# Altium schematic symbol library texas_instruments.SchLib: 28 symbols
Pins are listed as number, name and electrical type; pins without a type are passive.

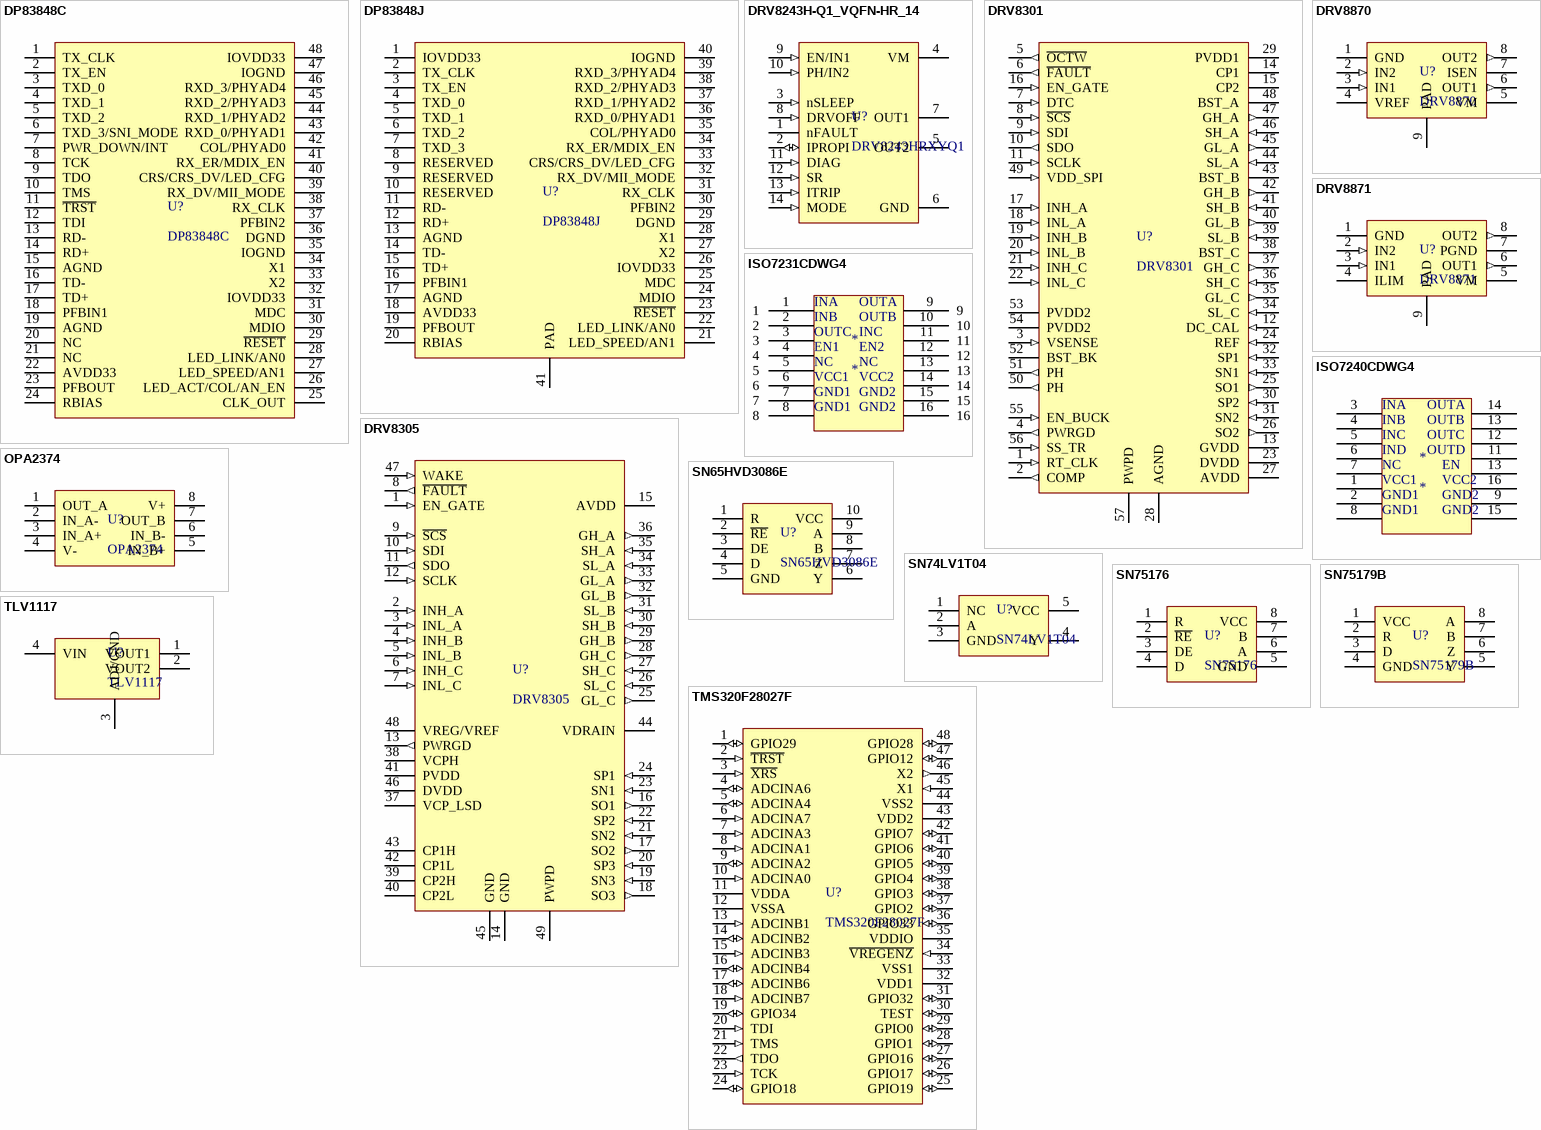
[diagram p0: symbols DP83848C to TMS320F28027F]

## DP83848C
designator U?
footprint PQFP48
pins: 1 TX_CLK, 2 TX_EN, 3 TXD_0, 4 TXD_1, 5 TXD_2, 6 TXD_3/SNI_MODE, 7 PWR_DOWN/INT, 8 TCK, 9 TDO, 10 TMS, 11 ~{TRST}, 12 TDI, 13 RD-, 14 RD+, 15 AGND, 16 TD-, 17 TD+, 18 PFBIN1, 19 AGND, 20 NC, 21 NC, 22 AVDD33, 23 PFBOUT, 24 RBIAS, 25 CLK_OUT, 26 LED_ACT/COL/AN_EN, 27 LED_SPEED/AN1, 28 LED_LINK/AN0, 29 ~{RESET}, 30 MDIO, 31 MDC, 32 IOVDD33, 33 X2, 34 X1, 35 IOGND, 36 DGND, 37 PFBIN2, 38 RX_CLK, 39 RX_DV/MII_MODE, 40 CRS/CRS_DV/LED_CFG, 41 RX_ER/MDIX_EN, 42 COL/PHYAD0, 43 RXD_0/PHYAD1, 44 RXD_1/PHYAD2, 45 RXD_2/PHYAD3, 46 RXD_3/PHYAD4, 47 IOGND, 48 IOVDD33

## DP83848J
designator U?
footprint WQFN40
pins: 1 IOVDD33, 2 TX_CLK, 3 TX_EN, 4 TXD_0, 5 TXD_1, 6 TXD_2, 7 TXD_3, 8 RESERVED, 9 RESERVED, 10 RESERVED, 11 RD-, 12 RD+, 13 AGND, 14 TD-, 15 TD+, 16 PFBIN1, 17 AGND, 18 AVDD33, 19 PFBOUT, 20 RBIAS, 21 LED_SPEED/AN1, 22 LED_LINK/AN0, 23 ~{RESET}, 24 MDIO, 25 MDC, 26 IOVDD33, 27 X2, 28 X1, 29 DGND, 30 PFBIN2, 31 RX_CLK, 32 RX_DV/MII_MODE, 33 CRS/CRS_DV/LED_CFG, 34 RX_ER/MDIX_EN, 35 COL/PHYAD0, 36 RXD_0/PHYAD1, 37 RXD_1/PHYAD2, 38 RXD_2/PHYAD3, 39 RXD_3/PHYAD4, 40 IOGND, 41 PAD

## DRV8243H-Q1_VQFN-HR_14
designator U?, comment DRV8243HRXYQ1
Automotive H-Bridge Driver with Integrated Current Sense and Diagnostics
footprint DRV8243_VQFN-HR_14
pins: 1 nFAULT (oc), 2 IPROPI (io), 3 nSLEEP (in), 4 VM (power), 5 OUT2 (power), 6 GND (power), 7 OUT1 (power), 8 DRVOFF (in), 9 EN/IN1 (in), 10 PH/IN2 (in), 11 DIAG (in), 12 SR (in), 13 ITRIP (in), 14 MODE (in)

## DRV8301
designator U?
footprint SO56_POWERPAD
pins: 1 RT_CLK (in), 2 COMP (out), 3 VSENSE (in), 4 PWRGD (out), 5 ~{OCTW} (out), 6 ~{FAULT} (out), 7 DTC (in), 8 ~{SCS} (in), 9 SDI (in), 10 SDO (out), 11 SCLK (in), 12 DC_CAL (in), 13 GVDD (power), 14 CP1 (power), 15 CP2 (power), 16 EN_GATE (in), 17 INH_A (in), 18 INL_A (in), 19 INH_B (in), 20 INL_B (in), 21 INH_C (in), 22 INL_C (in), 23 DVDD (power), 24 REF (in), 25 SO1 (out), 26 SO2 (out), 27 AVDD (power), 28 AGND (power), 29 PVDD1 (power), 30 SP2 (in), 31 SN2 (in), 32 SP1 (in), 33 SN1 (in), 34 SL_C (in), 35 GL_C (out), 36 SH_C (in), 37 GH_C (out), 38 BST_C (power), 39 SL_B (in), 40 GL_B (out), 41 SH_B (in), 42 GH_B (out), 43 BST_B (power), 44 SL_A (in), 45 GL_A (out), 46 SH_A (in), 47 GH_A (out), 48 BST_A (power), 49 VDD_SPI (in), 50 PH (out), 51 PH (out), 52 BST_BK (power), 53 PVDD2 (power), 54 PVDD2 (power), 55 EN_BUCK (in), 56 SS_TR (in), 57 PWPD (power)

## DRV8305
designator U?
footprint PQFP48_PAD
pins: 1 EN_GATE (in), 2 INH_A (in), 3 INL_A (in), 4 INH_B (in), 5 INL_B (in), 6 INH_C (in), 7 INL_C (in), 8 ~{FAULT} (out), 9 ~{SCS} (in), 10 SDI (in), 11 SDO (out), 12 SCLK (in), 13 PWRGD (out), 14 GND (power), 15 AVDD (power), 16 SO1 (out), 17 SO2 (out), 18 SO3 (out), 19 SN3 (in), 20 SP3 (in), 21 SN2 (in), 22 SP2 (in), 23 SN1 (in), 24 SP1 (in), 25 GL_C (out), 26 SL_C (in), 27 SH_C (in), 28 GH_C (out), 29 GH_B (out), 30 SH_B (in), 31 SL_B (in), 32 GL_B (out), 33 GL_A (out), 34 SL_A (in), 35 SH_A (in), 36 GH_A (out), 37 VCP_LSD (power), 38 VCPH (power), 39 CP2H (power), 40 CP2L (power), 41 PVDD (power), 42 CP1L (power), 43 CP1H (power), 44 VDRAIN (power), 45 GND (power), 46 DVDD (power), 47 WAKE (in), 48 VREG/VREF (power), 49 PWPD (power)

## DRV8870
designator U?
footprint HSOP8
pins: 1 GND, 2 IN2 (in), 3 IN1 (in), 4 VREF, 5 VM, 6 OUT1 (out), 7 ISEN, 8 OUT2 (out), 9 PAD

## DRV8871
designator U?
footprint HSOP8
pins: 1 GND, 2 IN2 (in), 3 IN1 (in), 4 ILIM, 5 VM, 6 OUT1 (out), 7 PGND, 8 OUT2 (out), 9 PAD

## ISO7231CDWG4
designator *
pins: 1, 2, 3, 4, 5, 6, 7, 8, 9, 10, 11, 12, 13, 14, 15, 16
text: INA; OUTA; INB; OUTB; OUTC; INC; EN1; EN2; NC; VCC1; VCC2; GND1; GND2

## ISO7240CDWG4
designator *
footprint SOIC127-16N (SOIC, 16-Leads, Body 10,30x7,50mm, Pitch 1,27mm, IPC Medium Density); pin to pad 5>7 6>1 7>2
pins: 1 VCC1, 2 GND1, 3, 4 INB, 5 INC, 6 IND, 7 5, 8 GND1, 9 GND2, 11 OUTD, 12 OUTC, 13 OUTB, 13 EN, 14 OUTA, 15 GND2, 16 VCC2
text: INA; NC

## OPA2374
designator U?
footprint SOT23-8
pins: 1 OUT_A, 2 IN_A-, 3 IN_A+, 4 V-, 5 IN_B+, 6 IN_B-, 7 OUT_B, 8 V+

## SN65HVD3086E
designator U?
footprint SOP10
pins: 1 R, 2 ~{RE}, 3 DE, 4 D, 5 GND, 6 Y, 7 Z, 8 B, 9 A, 10 VCC

## SN74LV1T04
designator U?
footprint SOT23-5
pins: 1 NC, 2 A, 3 GND, 4 Y, 5 VCC

## SN75176
designator U?
footprint SOIC-8
pins: 1 R, 2 ~{RE}, 3 DE, 4 D, 5 GND, 6 A, 7 B, 8 VCC

## SN75179B
designator U?
footprint SOIC-8
pins: 1 VCC, 2 R, 3 D, 4 GND, 5 Y, 6 Z, 7 B, 8 A

## TLV1117
designator U?
footprint SOT223 (SOT223, 4-Leads, Body 6,50x7,00mm (avg), Pitch 2,30mm, IPC Medium Density); pin to pad 1>4 3>1 4>3
pins: 1 VOUT1, 2 VOUT2, 3 ADJ/GND, 4 VIN

## TMS320F28027F
designator U?
footprint PQFP48
pins: 1 GPIO29 (io), 2 ~{TRST} (in), 3 ~{XRS} (in), 4 ADCINA6 (io), 5 ADCINA4 (io), 6 ADCINA7 (in), 7 ADCINA3 (in), 8 ADCINA1 (in), 9 ADCINA2 (io), 10 ADCINA0 (in), 11 VDDA (power), 12 VSSA (power), 13 ADCINB1 (in), 14 ADCINB2 (io), 15 ADCINB3 (in), 16 ADCINB4 (io), 17 ADCINB6 (io), 18 ADCINB7 (in), 19 GPIO34 (io), 20 TDI (in), 21 TMS (in), 22 TDO (out), 23 TCK (in), 24 GPIO18 (io), 25 GPIO19 (io), 26 GPIO17 (io), 27 GPIO16 (io), 28 GPIO1 (io), 29 GPIO0 (io), 30 TEST (io), 31 GPIO32 (io), 32 VDD1 (power), 33 VSS1 (power), 34 ~{VREGENZ} (in), 35 VDDIO (power), 36 GPIO33 (io), 37 GPIO2 (io), 38 GPIO3 (io), 39 GPIO4 (io), 40 GPIO5 (io), 41 GPIO6 (io), 42 GPIO7 (io), 43 VDD2 (power), 44 VSS2 (power), 45 X1 (in), 46 X2 (out), 47 GPIO12 (io), 48 GPIO28 (io)

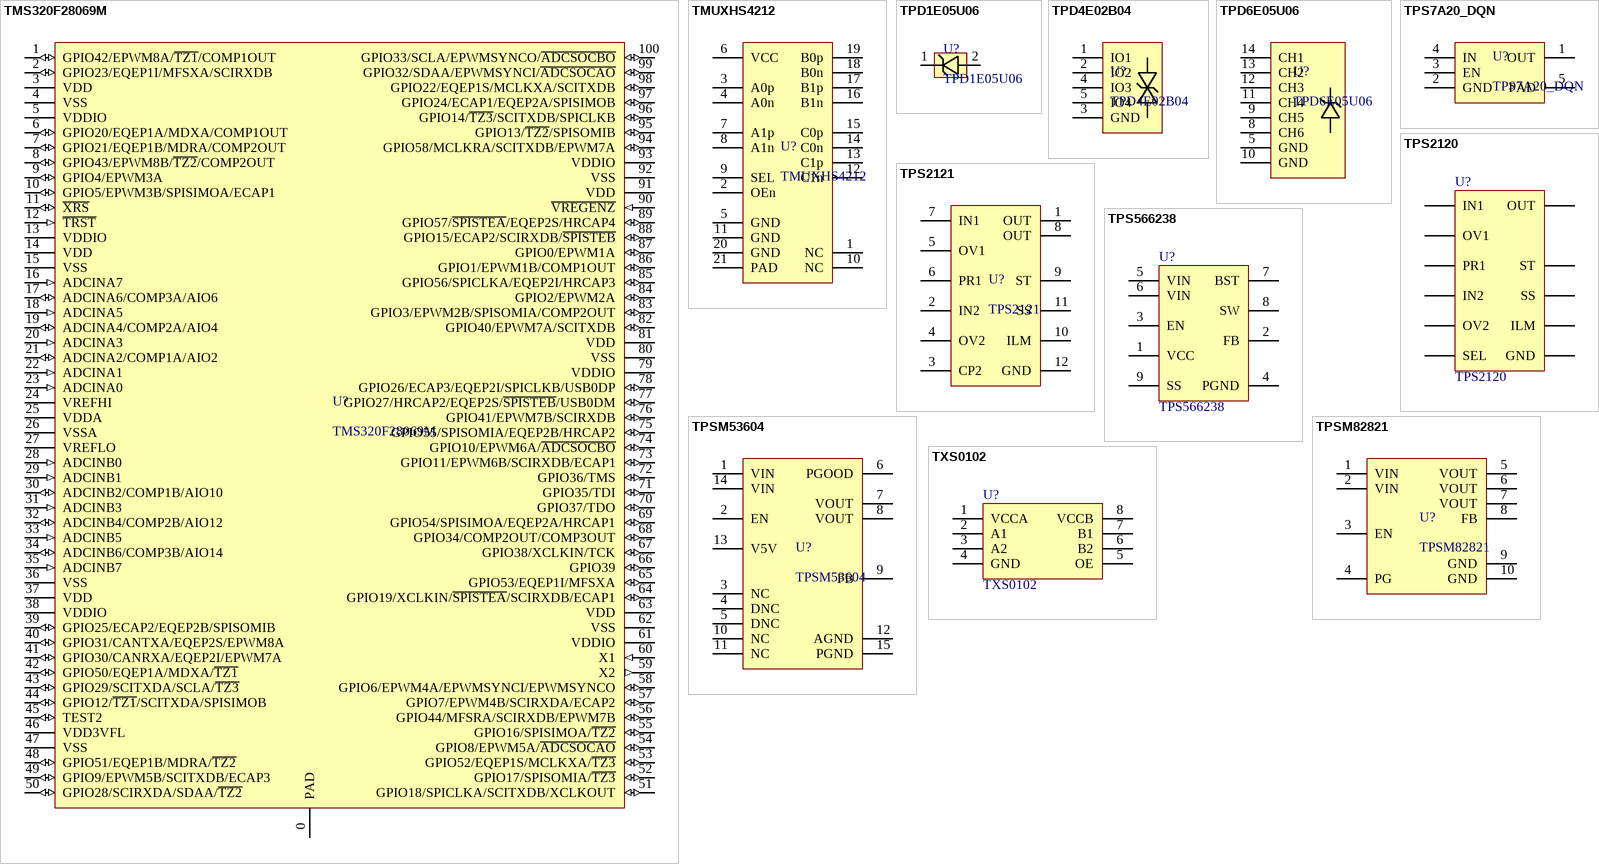
[diagram p1: symbols TMS320F28069M to TXS0102]

## TMS320F28069M
designator U?
footprint PQFP100
pins: 0 PAD, 1 GPIO42/EPWM8A/~{TZ1}/COMP1OUT (io), 2 GPIO23/EQEP1I/MFSXA/SCIRXDB (io), 3 VDD (power), 4 VSS (power), 5 VDDIO (power), 6 GPIO20/EQEP1A/MDXA/COMP1OUT (io), 7 GPIO21/EQEP1B/MDRA/COMP2OUT (io), 8 GPIO43/EPWM8B/~{TZ2}/COMP2OUT (io), 9 GPIO4/EPWM3A (io), 10 GPIO5/EPWM3B/SPISIMOA/ECAP1 (io), 11 ~{XRS} (io), 12 ~{TRST} (in), 13 VDDIO (power), 14 VDD (power), 15 VSS (power), 16 ADCINA7 (in), 17 ADCINA6/COMP3A/AIO6 (io), 18 ADCINA5 (in), 19 ADCINA4/COMP2A/AIO4 (io), 20 ADCINA3 (in), 21 ADCINA2/COMP1A/AIO2 (io), 22 ADCINA1 (in), 23 ADCINA0 (in), 24 VREFHI (power), 25 VDDA (power), 26 VSSA (power), 27 VREFLO (power), 28 ADCINB0 (in), 29 ADCINB1 (in), 30 ADCINB2/COMP1B/AIO10 (io), 31 ADCINB3 (in), 32 ADCINB4/COMP2B/AIO12 (io), 33 ADCINB5 (in), 34 ADCINB6/COMP3B/AIO14 (io), 35 ADCINB7 (in), 36 VSS (power), 37 VDD (power), 38 VDDIO (power), 39 GPIO25/ECAP2/EQEP2B/SPISOMIB (io), 40 GPIO31/CANTXA/EQEP2S/EPWM8A (io), 41 GPIO30/CANRXA/EQEP2I/EPWM7A (io), 42 GPIO50/EQEP1A/MDXA/~{TZ1} (io), 43 GPIO29/SCITXDA/SCLA/~{TZ3} (io), 44 GPIO12/~{TZ1}/SCITXDA/SPISIMOB (io), 45 TEST2 (io), 46 VDD3VFL (power), 47 VSS (power), 48 GPIO51/EQEP1B/MDRA/~{TZ2} (io), 49 GPIO9/EPWM5B/SCITXDB/ECAP3 (io), 50 GPIO28/SCIRXDA/SDAA/~{TZ2} (io), 51 GPIO18/SPICLKA/SCITXDB/XCLKOUT (io), 52 GPIO17/SPISOMIA/~{TZ3} (io), 53 GPIO52/EQEP1S/MCLKXA/~{TZ3} (io), 54 GPIO8/EPWM5A/~{ADCSOCAO} (io), 55 GPIO16/SPISIMOA/~{TZ2} (io), 56 GPIO44/MFSRA/SCIRXDB/EPWM7B (io), 57 GPIO7/EPWM4B/SCIRXDA/ECAP2 (io), 58 GPIO6/EPWM4A/EPWMSYNCI/EPWMSYNCO (io), 59 X2 (out), 60 X1 (in), 61 VDDIO (power), 62 VSS (power), 63 VDD (power), 64 GPIO19/XCLKIN/~{SPISTEA}/SCIRXDB/ECAP1 (io), 65 GPIO53/EQEP1I/MFSXA (io), 66 GPIO39 (io), 67 GPIO38/XCLKIN/TCK (io), 68 GPIO34/COMP2OUT/COMP3OUT (io), 69 GPIO54/SPISIMOA/EQEP2A/HRCAP1 (io), 70 GPIO37/TDO (io), 71 GPIO35/TDI (io), 72 GPIO36/TMS (io), 73 GPIO11/EPWM6B/SCIRXDB/ECAP1 (io), 74 GPIO10/EPWM6A/~{ADCSOCBO} (io), 75 GPIO55/SPISOMIA/EQEP2B/HRCAP2 (io), 76 GPIO41/EPWM7B/SCIRXDB (io), 77 GPIO27/HRCAP2/EQEP2S/~{SPISTEB}/USB0DM (io), 78 GPIO26/ECAP3/EQEP2I/SPICLKB/USB0DP (io), 79 VDDIO (power), 80 VSS (power), 81 VDD (power), 82 GPIO40/EPWM7A/SCITXDB (io), 83 GPIO3/EPWM2B/SPISOMIA/COMP2OUT (io), 84 GPIO2/EPWM2A (io), 85 GPIO56/SPICLKA/EQEP2I/HRCAP3 (io), 86 GPIO1/EPWM1B/COMP1OUT (io), 87 GPIO0/EPWM1A (io), 88 GPIO15/ECAP2/SCIRXDB/~{SPISTEB} (io), 89 GPIO57/~{SPISTEA}/EQEP2S/HRCAP4 (io), 90 ~{VREGENZ} (in), 91 VDD (power), 92 VSS (power), 93 VDDIO (power), 94 GPIO58/MCLKRA/SCITXDB/EPWM7A (io), 95 GPIO13/~{TZ2}/SPISOMIB (io), 96 GPIO14/~{TZ3}/SCITXDB/SPICLKB (io), 97 GPIO24/ECAP1/EQEP2A/SPISIMOB (io), 98 GPIO22/EQEP1S/MCLKXA/SCITXDB (io), 99 GPIO32/SDAA/EPWMSYNCI/~{ADCSOCAO} (io), 100 GPIO33/SCLA/EPWMSYNCO/~{ADCSOCBO} (io)

## TMUXHS4212
designator U?
footprint TI_VQFN_RKS0020A (PQFN, 20-Leads, Body 2,50x4,50mm, Pitch 0,50mm, Thermal Pad 1,00x3,00mm, IPC Medium Density)
pins: 1 NC, 2 OEn, 3 A0p, 4 A0n, 5 GND, 6 VCC, 7 A1p, 8 A1n, 9 SEL, 10 NC, 11 GND, 12 C1n, 13 C1p, 14 C0n, 15 C0p, 16 B1n, 17 B1p, 18 B0n, 19 B0p, 20 GND, 21 PAD

## TPD1E05U06
designator U?
footprint TI_X1SON_DPY (SON, 2-Leads, Body 0,60x1,00mm, Pitch 0,65mm, IPC Medium Density)
pins: 1, 2

## TPD4E02B04
designator U?
footprint TI_USON10_DQA0010A_PASS
pins: 1 IO1, 2 IO2, 3 GND, 4 IO3, 5 IO4

## TPD6E05U06
designator U?
footprint TI_RVZ_R-PUSON-14_PASS (SON, 14-Leads, Body 3,50x1,35mm, Pitch 0,50mm, IPC Medium Density)
pins: 5 GND, 8 CH6, 9 CH5, 10 GND, 11 CH4, 12 CH3, 13 CH2, 14 CH1

## TPS7A20_DQN
designator U?
footprint TI_X2SON_DQN0004A
footprint TI_X2SON_DQN0004A_NSMD
pins: 1 OUT, 2 GND, 3 EN, 4 IN, 5 PAD

## TPS2120
designator U?
footprint TI_DSBGA_YFP0020 (BGA, 20-Leads, Body 1,56x1,96mmx0,50mm, Pitch 0,40mm); pin to pad 1>A1 2>A2 3>A3 4>A4 5>B1+B2+C1 6>B3+B4+C4 7>C2+C3+D1+D2+D3+D4 8>E1 9>E2 10>E3 11>E4
pins: 1 PR1, 2 OV1, 3 OV2, 4 SEL, 5 IN1, 6 IN2, 7 OUT, 8 ST, 9 ILM, 10 SS, 11 GND

## TPS2121
designator U?
footprint TI_VQFN-HR_RUX0012A
pins: 1 OUT, 2 IN2, 3 CP2, 4 OV2, 5 OV1, 6 PR1, 7 IN1, 8 OUT, 9 ST, 10 ILM, 11 SS, 12 GND

## TPS566238
designator U?
footprint TI_VQFN-HR_RQF0009A
pins: 1 VCC, 2 FB, 3 EN, 4 PGND, 5 VIN, 6 VIN, 7 BST, 8 SW, 9 SS

## TPSM53604
designator U?
footprint TI_B3QFN
pins: 1 VIN, 2 EN, 3 NC, 4 DNC, 5 DNC, 6 PGOOD, 7 VOUT, 8 VOUT, 9 FB, 10 NC, 11 NC, 12 AGND, 13 V5V, 14 VIN, 15 PGND

## TPSM82821
designator U?
footprint TI_uSIP_SIL0010D
pins: 1 VIN, 2 VIN, 3 EN, 4 PG, 5 VOUT, 6 VOUT, 7 VOUT, 8 FB, 9 GND, 10 GND

## TXS0102
designator U?
footprint TI_X2SON_DQE0008A (SON, 8-Leads, Body 1,40x1,00mm, Pitch 0,35mm, IPC Medium Density)
footprint TI_X2SON_DQM (SON, 8-Leads, Body 1,80x1,20mm, Pitch 0,40mm, IPC Medium Density)
pins: 1 VCCA, 2 A1, 3 A2, 4 GND, 5 OE, 6 B2, 7 B1, 8 VCCB